# Altium footprint library A4963GLPTR-T.PcbLib: 1 footprints
Each footprint in its own frame and in the unit in brackets; x right, y up, seen from the top. Pads: shape width x height; smd on the part's side, far side on the other; paste and mask are expansions set on the pad; w line width, h text height; cw(c..) or ccw(c..) is an arc to the next point about the centre after c.
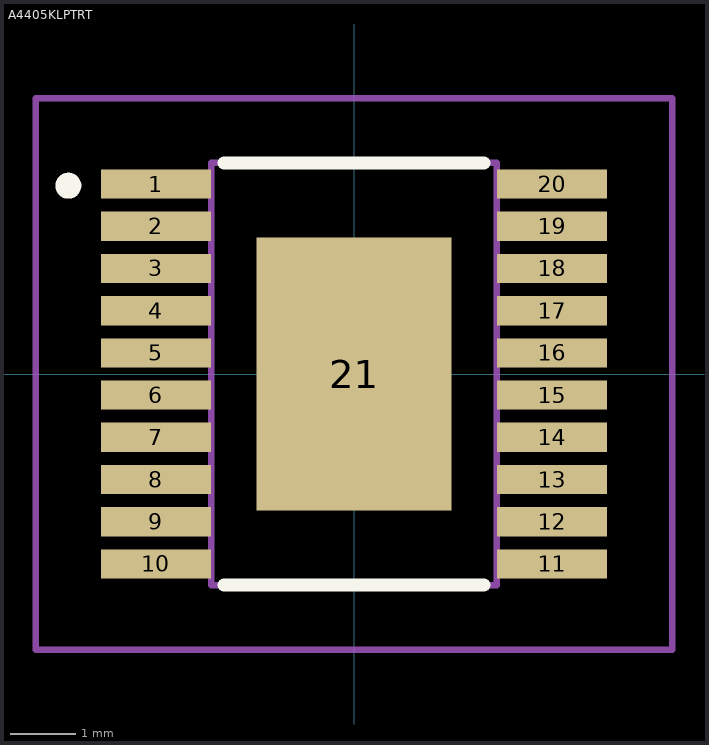
[diagram p0: the footprint, top view; thin cyan lines are the x and y axes]

## A4405KLPTRT [mm]
pads (21):
  rect 1.7x0.45 smd: 1(-3.05,2.925) 2(-3.05,2.275) 3(-3.05,1.625) 4(-3.05,0.975) 5(-3.05,0.325) 6(-3.05,-0.325) 7(-3.05,-0.975) 8(-3.05,-1.625) 9(-3.05,-2.275) 10(-3.05,-2.925) 11(3.05,-2.925) 12(3.05,-2.275) 13(3.05,-1.625) 14(3.05,-0.975) 15(3.05,-0.325) 16(3.05,0.325) 17(3.05,0.975) 18(3.05,1.625) 19(3.05,2.275) 20(3.05,2.925)
  rect 3x4.2 smd: 21(0,0)
Top Overlay:
  lines w0.2: -2,-3.25 2,-3.25 ; -2,3.25 2,3.25 ; -4.4,2.8 ccw(c-4.4,2.9) -4.4,3 ccw(c-4.4,2.9) -4.4,2.8
Mechanical 13:
  lines w0.1: -2.2,-3.25 -2.2,3.25 2.2,3.25 2.2,-3.25 -2.2,-3.25
Mechanical 15:
  lines w0.1: -4.9,-4.25 -4.9,4.25 4.9,4.25 4.9,-4.25 -4.9,-4.25
3D body "A4963GLPTR-T.stp": height 1.04, standoff -0.01, extent -3.19,-3.307 3.206,3.293